# EAGLE library part TLV61224 (library bt_regulator)
TLV61224 Single-Cell, High-Efficient, Step-Up Converter in 6-Pin SC-70 Package The TLV61224 device provides a power-supply solution for products powered by either a single-cell or 2-cell alkaline or NiMH, or 1-cell Li-primary battery. datasheet.pdf <http://www.ti.com/lit/ds/symlink/tlv61224.pdf>
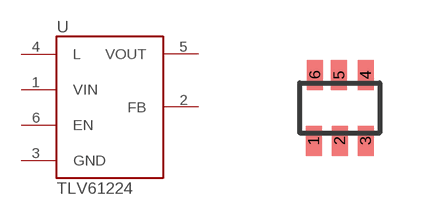
[diagram p6: symbol with the pads of SC70-6; footprint SC70-6]

Designator prefix U

## TLV61224  [SC70-6]
1  VIN
2  FB
3  GND
4  L
5  VOUT
6  EN

## Footprint SC70-6 (pad centres in mm)
smd 0.4 x 0.75: 1 -0.65,-0.825; 2 0,-0.825; 3 0.65,-0.825; 4 0.65,0.825; 5 -0.015,0.825; 6 -0.62,0.825